# EAGLE library part SN65HVD37 (library Public)
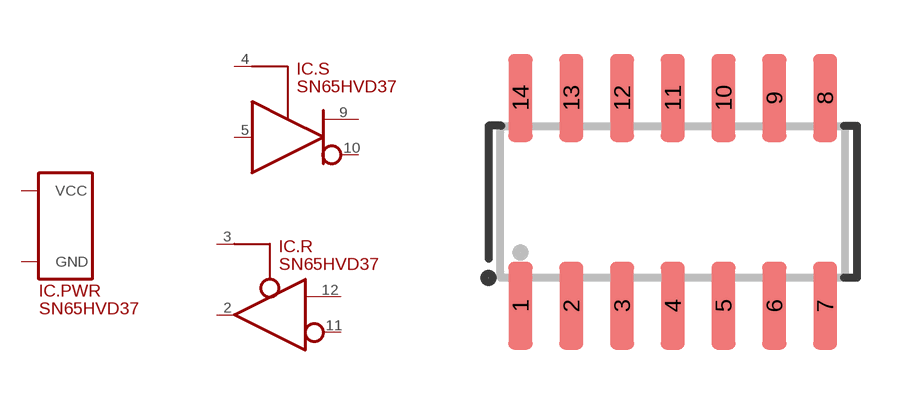
[diagram p81: symbol with the pads of SO14; footprint SO14]

Designator prefix IC; gates .PWR=SUPPLY_VCC/GND .S=DIFFERENTIAL_SENDER .R=DIFFERENTIAL_RECEIVER

## SN65HVD37  [SO14]
2  .R:DATA
3  .R:EN
4  .S:EN
5  .S:DATA
6  .PWR:GND
7  .PWR:GND
9  .S:DIFF+
10  .S:DIFF-
11  .R:DIFF-
12  .R:DIFF+
13  .PWR:VCC
14  .PWR:VCC

## Footprint SO14 (pad centres in mm)
smd 0.6 x 2.2: 1 -3.81,-2.6; 2 -2.54,-2.6; 3 -1.27,-2.6; 4 0,-2.6; 5 1.27,-2.6; 6 2.54,-2.6; 7 3.81,-2.6; 8 3.81,2.6; 9 2.54,2.6; 10 1.27,2.6; 11 0,2.6; 12 -1.27,2.6; 13 -2.54,2.6; 14 -3.81,2.6